# Altium footprint library BME280.PcbLib: 1 footprints
Each footprint in its own frame and in the unit in brackets; x right, y up, seen from the top. Pads: shape width x height; smd on the part's side, far side on the other; paste and mask are expansions set on the pad; w line width, h text height; cw(c..) or ccw(c..) is an arc to the next point about the centre after c.
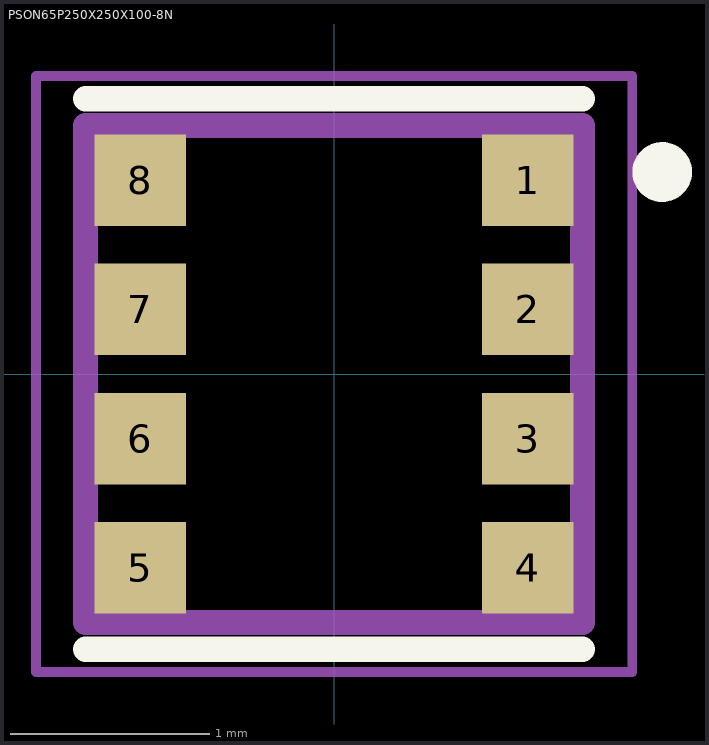
[diagram p0: the footprint, top view; thin cyan lines are the x and y axes]

## PSON65P250X250X100-8N [mm]
pads (8):
  rect 0.46x0.46 smd: 1(0.975,0.975) 2(0.975,0.325) 3(0.975,-0.325) 4(0.975,-0.975) 5(-0.975,-0.975) 6(-0.975,-0.325) 7(-0.975,0.325) 8(-0.975,0.975)
Top Overlay:
  circle w0.2: c1.651,1.016 r0.05
  lines w0.127: -1.25,-1.385 1.25,-1.385 ; -1.25,1.385 1.25,1.385
Mechanical 1:
  circle w0.2: c1.016,1.016 r0.05
  lines w0.127: -1.25,-1.25 1.25,-1.25 1.25,1.25 -1.25,1.25 -1.25,-1.25
Mechanical 4:
  lines w0.05: -1.5,-1.5 -1.5,1.5 1.5,1.5 1.5,-1.5 -1.5,-1.5
3D body "User Library-Bosch_BME280.STEP": height 0.93, standoff 0, extent -1.25,-1.25 1.25,1.25